# EAGLE library part TL7726 (library texas_instruments)
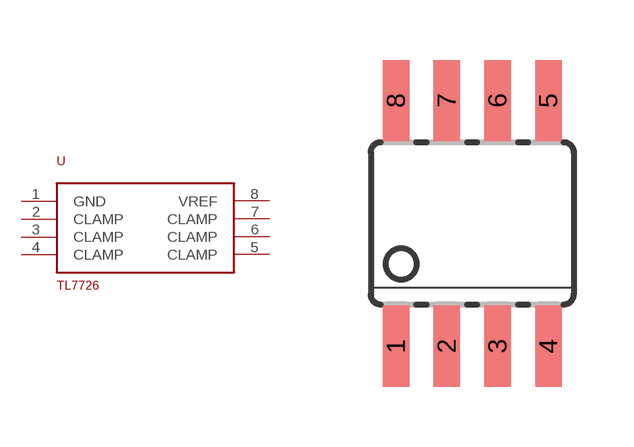
[diagram p0: symbol with the pads of SOIC08; footprint SOIC08]

Designator prefix -

## TL7726  [SOIC08]
1  GND
2  CLAMP
3  CLAMP
4  CLAMP
5  CLAMP
6  CLAMP
7  CLAMP
8  VREF

## Footprint SOIC08 (pad centres in mm)
Small Outline Package
smd 0.66 x 2.032: 1 -1.905,-3.073; 2 -0.635,-3.073; 3 0.635,-3.073; 4 1.905,-3.073; 5 1.905,3.073; 6 0.635,3.073; 7 -0.635,3.073; 8 -1.905,3.073